# Altium schematic symbol library MPXHZ6130A.SchLib: 1 symbol
Pins are listed as number, name and electrical type; pins without a type are passive.

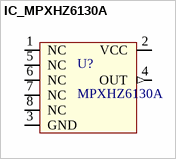
[diagram p0: symbol IC_MPXHZ6130A]

## IC_MPXHZ6130A
designator U?, comment MPXHZ6130A
pins: 1 NC, 2 VCC (power), 3 GND (power), 4 OUT (out), 5 NC, 6 NC, 7 NC, 8 NC